# EAGLE library part JTAG_ARM_20POLIG (library OOCD-Link_simple-04)
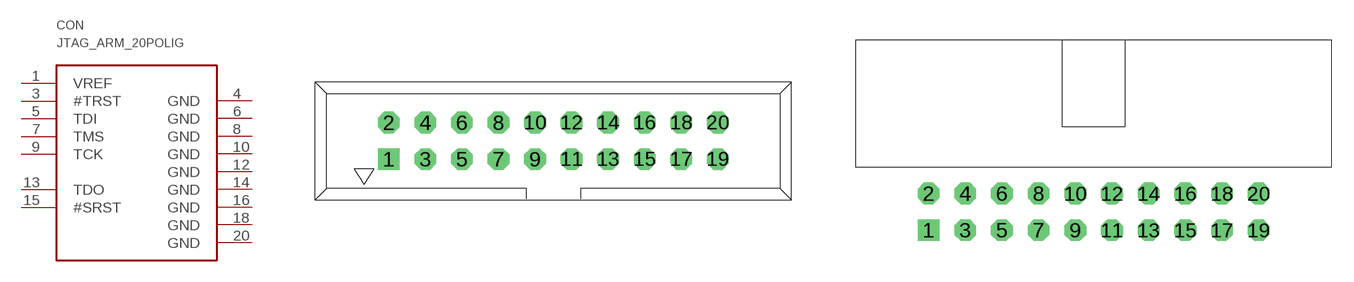
[diagram p3: symbol with the pads of JTAG_ARM_20POLIG; footprints JTAG_ARM_20POLIG, JTAG_ARTM_20POLIG_GEWINKELT]

Designator prefix CON

## JTAG_ARM_20POLIG  [JTAG_ARM_20POLIG]
1  VREF  pwr
3  #TRST  in
4  GND  pwr
5  TDI  in
6  GND  pwr
7  TMS  in
8  GND  pwr
9  TCK  in
10  GND  pwr
12  GND  pwr
13  TDO  out
14  GND  pwr
15  #SRST  oc
16  GND  pwr
18  GND  pwr
20  GND  pwr

## JTAG_ARM_20POLIGGEW  [JTAG_ARTM_20POLIG_GEWINKELT]
Pads as for JTAG_ARM_20POLIG

## Footprint JTAG_ARM_20POLIG (pad centres in mm)
drill 1 square: 1 -11.43,-1.27
drill 1 octagon: 2 -11.43,1.27; 3 -8.89,-1.27; 4 -8.89,1.27; 5 -6.35,-1.27; 6 -6.35,1.27; 7 -3.81,-1.27; 8 -3.81,1.27; 9 -1.27,-1.27; 10 -1.27,1.27; 11 1.27,-1.27; 12 1.27,1.27; 13 3.81,-1.27; 14 3.81,1.27; 15 6.35,-1.27; 16 6.35,1.27; 17 8.89,-1.27; 18 8.89,1.27; 19 11.43,-1.27; 20 11.43,1.27

## Footprint JTAG_ARTM_20POLIG_GEWINKELT (pad centres in mm)
drill 1 square: 1 -11.43,-1.27
drill 1 octagon: 2 -11.43,1.27; 3 -8.89,-1.27; 4 -8.89,1.27; 5 -6.35,-1.27; 6 -6.35,1.27; 7 -3.81,-1.27; 8 -3.81,1.27; 9 -1.27,-1.27; 10 -1.27,1.27; 11 1.27,-1.27; 12 1.27,1.27; 13 3.81,-1.27; 14 3.81,1.27; 15 6.35,-1.27; 16 6.35,1.27; 17 8.89,-1.27; 18 8.89,1.27; 19 11.43,-1.27; 20 11.43,1.27